# EAGLE library part 28VDC_TO_5VDC_PWR_SUPPLY (library madHaddr)
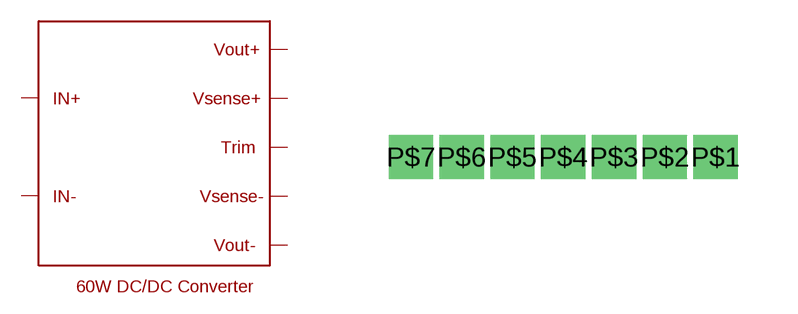
[diagram p7: symbol with the pads of 28VDC_TO_5VDC_PWR_SUPPLY; footprint 28VDC_TO_5VDC_PWR_SUPPLY]

Designator prefix -

## 28VDC_TO_5VDC_PWR_SUPPLY  [28VDC_TO_5VDC_PWR_SUPPLY]
P$1  P$1
P$2  P$2
P$3  P$3
P$4  P$4
P$5  P$5
P$6  P$6
P$7  P$7

## Footprint 28VDC_TO_5VDC_PWR_SUPPLY (pad centres in mm)
drill 0.6 square: P$1 0,0; P$2 -1.27,0; P$3 -2.54,0; P$4 -3.81,0; P$5 -5.08,0; P$6 -6.35,0; P$7 -7.62,0